# Altium footprint library PCB - CONNECTORS - MOLEX - MOLEX PICO-LOCK 5037630491.PcbLib: 1 footprints
Each footprint in its own frame and in the unit in brackets; x right, y up, seen from the top. Pads: shape width x height; smd on the part's side, far side on the other; paste and mask are expansions set on the pad; w line width, h text height; cw(c..) or ccw(c..) is an arc to the next point about the centre after c.
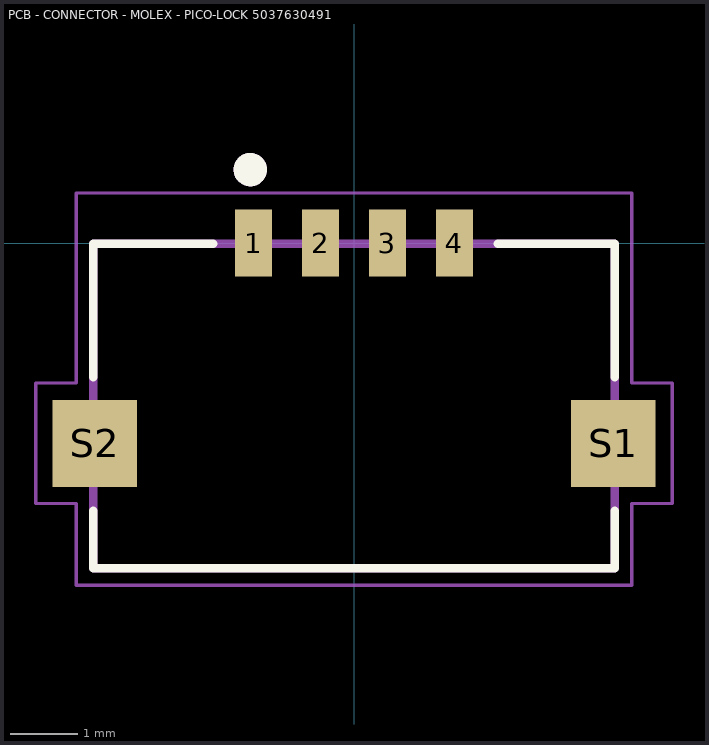
[diagram p0: the footprint, top view; thin cyan lines are the x and y axes]

## PCB - CONNECTOR - MOLEX - PICO-LOCK 5037630491 [mm]
pads (6):
  rect 0.55x1 smd: 1(-1.5,0) 2(-0.5,0) 3(0.5,0) 4(1.5,0)
  rect 1.26x1.3 smd: S1(3.875,-2.99) S2(-3.875,-2.99)
Top Overlay:
  circle w0.3: c-1.55,1.1 r0.1
  lines w0.127: -3.9,-4 -3.9,-4.86 3.9,-4.86 3.9,-4 ; -3.9,-2 -3.9,-0.01 -2.1,-0.01 ; 2.15,-0.01 3.9,-0.01 3.9,-2
Mechanical 13:
  circle w0.3: c-1.55,1.1 r0.1
  circle w0.3: c-1.55,1.1 r0.1
  lines w0.127: -3.9,-4.86 3.9,-4.86 ; -3.9,-4.86 -3.9,-0.01 ; -3.9,-4.86 3.9,-4.86 ; -3.9,-4.86 -3.9,-0.01 ; -3.9,-0.01 3.9,-0.01 ; -3.9,-0.01 3.9,-0.01 ; 3.9,-4.86 3.9,-0.01 ; 3.9,-4.86 3.9,-0.01
Mechanical 15:
  lines w0.05: -4.755,-3.89 -4.15,-3.89 -4.15,-5.11 4.15,-5.11 4.15,-3.89 4.755,-3.89 4.755,-2.09 4.15,-2.09 4.15,0.75 -4.15,0.75 -4.15,-2.09 -4.755,-2.09 -4.755,-3.89
3D body "5037630491.stp": height 1.47, standoff -0.03, extent -4.324,-4.878 4.276,0.312